# EAGLE library part ESP32_DEVC_MIN_LEFT (library eclibrary)
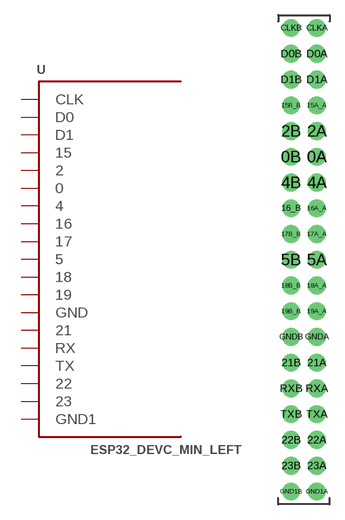
[diagram p0: symbol with the pads of ESP32_DEVC_DUAL_HEADER_BOT_MOUNT_LEFT; footprint ESP32_DEVC_DUAL_HEADER_BOT_MOUNT_LEFT]

Designator prefix -

## ESP32_DEVC_MIN_LEFT  [ESP32_DEVC_DUAL_HEADER_BOT_MOUNT_LEFT]
0A  0
0B  0
2A  2
2B  2
4A  4
4B  4
5A  5
5B  5
15A_A  15
15B_B  15
16_B  16
16A_A  16
17A_A  17
17B_B  17
18A_A  18
18B_B  18
19A_A  19
19B_B  19
21A  21
21B  21
22A  22
22B  22
23A  23
23B  23
CLKA  CLK
CLKB  CLK
D0A  D0
D0B  D0
D1A  D1
D1B  D1
GND1A  GND1  pwr
GND1B  GND1  pwr
GNDA  GND  pwr
GNDB  GND  pwr
RXA  RX
RXB  RX
TXA  TX
TXB  TX

## Footprint ESP32_DEVC_DUAL_HEADER_BOT_MOUNT_LEFT (pad centres in mm)
drill 1.016 pad 1.753: 0A 1.27,8.89; 0B -1.27,8.89; 2A 1.27,11.43; 2B -1.27,11.43; 4A 1.27,6.35; 4B -1.27,6.35; 5A 1.27,-1.27; 5B -1.27,-1.27; 15A_A 1.27,13.97; 15B_B -1.27,13.97; 16_B -1.27,3.81; 16A_A 1.27,3.81; 17A_A 1.27,1.27; 17B_B -1.27,1.27; 18A_A 1.27,-3.81; 18B_B -1.27,-3.81; 19A_A 1.27,-6.35; 19B_B -1.27,-6.35; 21A 1.27,-11.43; 21B -1.27,-11.43; 22A 1.27,-19.05; 22B -1.27,-19.05; 23A 1.27,-21.59; 23B -1.27,-21.59; CLKA 1.27,21.59; CLKB -1.27,21.59; D0A 1.27,19.05; D0B -1.27,19.05; D1A 1.27,16.51; D1B -1.27,16.51; GND1A 1.27,-24.13; GND1B -1.27,-24.13; GNDA 1.27,-8.89; GNDB -1.27,-8.89; RXA 1.27,-13.97; RXB -1.27,-13.97; TXA 1.27,-16.51; TXB -1.27,-16.51